# EAGLE library part EMC05DRAN (library con-sullins)
CONN EDGE DUAL FMALE 10POS 0.100
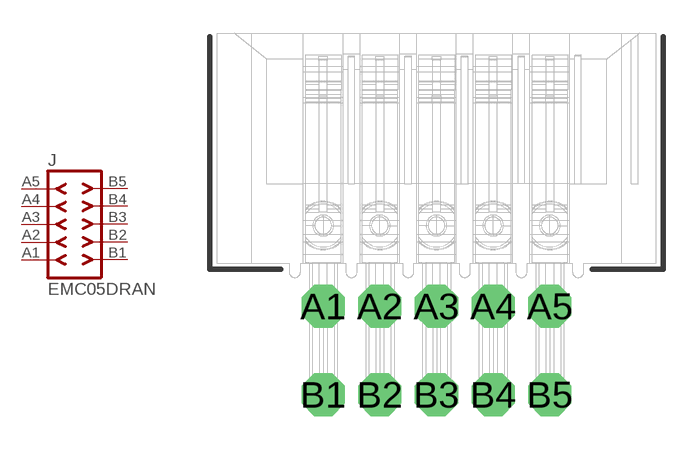
[diagram p64: symbol with the pads of EMC05DRAN; footprint EMC05DRAN]

Designator prefix J

## EMC05DRAN  [EMC05DRAN]
A1  A1  pas
A2  A2  pas
A3  A3  pas
A4  A4  pas
A5  A5  pas
B1  B1  pas
B2  B2  pas
B3  B3  pas
B4  B4  pas
B5  B5  pas

## Footprint EMC05DRAN (pad centres in mm)
CONN EDGE DUAL FMALE 10 POS 0.100
drill 1.27 pad 1.93 octagon: A1 -5.08,0; A2 -2.54,0; A3 0,0; A4 2.54,0; A5 5.08,0; B1 -5.08,-3.962; B2 -2.54,-3.962; B3 0,-3.962; B4 2.54,-3.962; B5 5.08,-3.962